# Altium integrated library Big_Library_Single_Pad.IntLib: 6 symbols
Pins are listed as number, name and electrical type; pins without a type are passive.

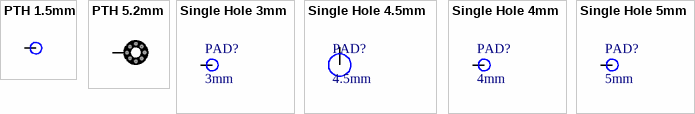
[diagram p0: symbols PTH 1.5mm to Single Hole 5mm]

## PTH 1.5mm
designator H?, comment 1.5  (value not drawn)
Plated Single Hole; Diameter: *; Hole Diameter: *; Hole Plate: *
footprint Single HOLE 1.5mm
pins: 1

## PTH 5.2mm
designator H?, comment 1.5mm  (value not drawn)
Plated Single Hole; Hole Diameter: 5.2mm; Diameter: 10mm; Hole Type: Plated
footprint PTH OUT10 IN5.2MM
pins: 1

## Single Hole 3mm
designator PAD?, comment 3mm
footprint Single HOLE 3mm
pins: 1

## Single Hole 4.5mm
designator PAD?, comment 4.5mm
footprint Single Pad 4.5mm
pins: 1

## Single Hole 4mm
designator PAD?, comment 4mm
footprint Single Pad 4mm
pins: 1

## Single Hole 5mm
designator PAD?, comment 5mm
footprint SIGLE PAD 5MM
pins: 1